# Altium footprint library IAUA250N04S6N005AUMA1.PcbLib: 1 footprints
Each footprint in its own frame and in the unit in brackets; x right, y up, seen from the top. Pads: shape width x height; smd on the part's side, far side on the other; paste and mask are expansions set on the pad; w line width, h text height; cw(c..) or ccw(c..) is an arc to the next point about the centre after c.
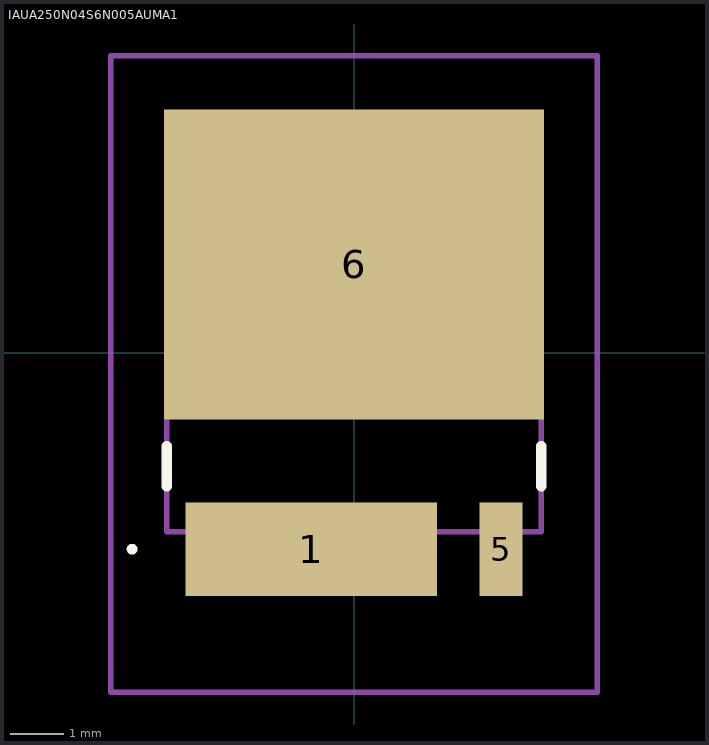
[diagram p0: the footprint, top view; thin cyan lines are the x and y axes]

## IAUA250N04S6N005AUMA1 [mm]
pads (3):
  rect 4.7x1.75 smd: 1(-0.8,-3.675)
  rect 0.8x1.75 smd: 5(2.75,-3.675)
  rect 7.1x5.8 smd: 6(0,1.651)
Top Overlay:
  lines w0.1: -4.2,-3.675 -4.2,-3.675 ; -4.2,-3.675 ccw(c-4.15,-3.675) -4.1,-3.675 ; -4.2,-3.675 cw(c-4.15,-3.675) -4.1,-3.675 ; -4.1,-3.675 -4.1,-3.675
  lines w0.2: -3.5,-2.5 -3.5,-1.75 ; -3.5,-2.5 -3.5,-2.5 ; -3.5,-2.5 -3.5,-1.75 ; -3.5,-1.75 -3.5,-1.75 ; 3.5,-2.5 3.5,-1.75 ; 3.5,-2.5 3.5,-2.5 ; 3.5,-2.5 3.5,-1.75 ; 3.5,-1.75 3.5,-1.75
Mechanical 15:
  lines w0.1: -3.5,-3.35 3.5,-3.35 3.5,3.35 -3.5,3.35 -3.5,-3.35
Mechanical 20:
  lines w0.1: -4.55,-6.35 4.55,-6.35 4.55,5.551 -4.55,5.551 -4.55,-6.35
3D body "IAUA250N04S6N005AUMA1.stp": height 5.8, standoff -4.65, extent -10,-3.376 10,3.376